# Altium schematic symbol library Schlib1.SchLib: 4 symbols
Pins are listed as number, name and electrical type; pins without a type are passive.

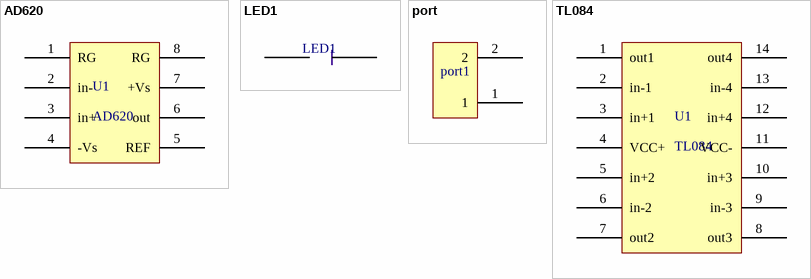
[diagram p0: symbols AD620 to TL084]

## AD620
designator U1
pins: 1 RG, 2 in-, 3 in+, 4 -Vs, 5 REF, 6 out, 7 +Vs, 8 RG

## LED1
designator LED1  (value not drawn)
pins: 1 kathod, 2 Anode

## port
designator port1  (value not drawn)
pins: 1, 2

## TL084
designator U1
pins: 1 out1, 2 in-1, 3 in+1, 4 VCC+, 5 in+2, 6 in-2, 7 out2, 8 out3, 9 in-3, 10 in+3, 11 VCC-, 12 in+4, 13 in-4, 14 out4